# Altium footprint library 2020-05-30_00-24-19.PcbLib: 6 footprints
Each footprint in its own frame and in the unit in brackets; x right, y up, seen from the top. Pads: shape width x height; smd on the part's side, far side on the other; paste and mask are expansions set on the pad; w line width, h text height; cw(c..) or ccw(c..) is an arc to the next point about the centre after c.
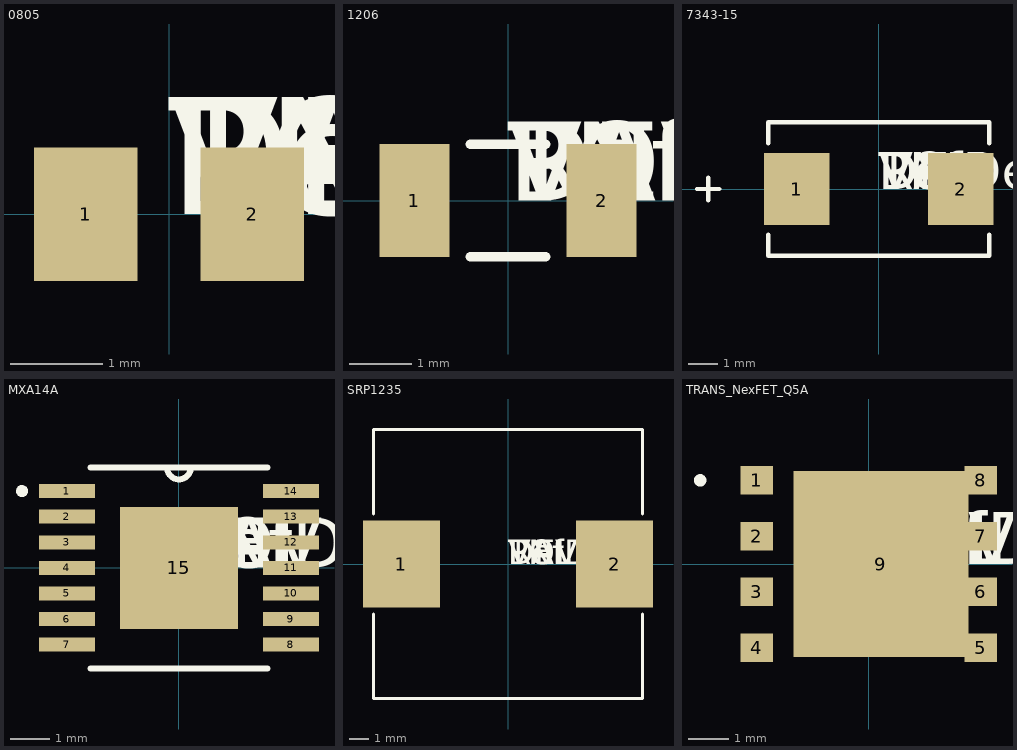
[diagram p0: the footprints below, top view; thin cyan lines are the x and y axes]

## 0805 [mil]
pads (2):
  rect 44x57 smd: 1(-35.5,0) 2(35.5,0)
Top Overlay:
  text "RefDes" at 0,0 h50
  text "DEV" at 0,0 h50
  text "PN" at 0,0 h50
  text "DEV" at 0,0 h50
  text "VAL" at 0,0 h50
  text "TOL" at 0,0 h50
3D body "0805.stp": height 57, standoff 0, extent -43.5,-28.5 43.5,28.5

## 1206 [mil]
pads (2):
  rect 44x71 smd: 1(-59,0) 2(59,0)
Top Overlay:
  lines w6: -23.9,-35.5 23.9,-35.5 ; -23.9,35.5 23.9,35.5
  text "RefDes" at 0,0 h50
  text "DEV" at 0,0 h50
  text "PN" at 0,0 h50
  text "DEV" at 0,0 h50
  text "VAL" at 0,0 h50
  text "TOL" at 0,0 h50
3D body "1206.stp": height 30, standoff 0, extent -67,-35.5 67,35.5

## 7343-15 [mil]
pads (2):
  rect 89x98 smd: 1(-111,0) 2(111,0)
Top Overlay:
  lines w6: -246,0 -216,0 ; -231,-15 -231,15 ; -149.5,-62.1 -149.5,-90.5 149.5,-90.5 149.5,-62.1 ; -149.5,62.1 -149.5,90.5 149.5,90.5 149.5,62.1
  text "RefDes" at 0,0 h50
  text "DEV" at 0,0 h50
  text "PN" at 0,0 h50
  text "DEV" at 0,0 h50
  text "VAL" at 0,0 h50
  text "TOL" at 0,0 h50
3D body "7343-15.stp": height 81, standoff 0, extent -149.5,-90.5 149.5,90.5

## MXA14A [mil]
pads (15):
  rect 56x14 smd: 1(-112,76.77) 2(-112,51.18) 3(-112,25.59) 4(-112,0) 5(-112,-25.59) 6(-112,-51.18) 7(-112,-76.77) 8(112,-76.77) 9(112,-51.18) 10(112,-25.59) 11(112,0) 12(112,25.59) 13(112,51.18) 14(112,76.77)
  rect 118x122 smd: 15(0,0)
Top Overlay:
  circle w6: c-156.8,76.77 r3
  lines w6: -88.5,-100.5 88.5,-100.5 ; -88.5,100.5 88.5,100.5 ; -12,100.5 ccw(c0,100.5) 12,100.5
  text "RefDes" at 0,0 h50
  text "DEV" at 0,0 h50
  text "PN" at 0,0 h50
  text "DEV" at 0,0 h50
  text "VAL" at 0,0 h50
  text "TOL" at 0,0 h50
3D body "MXA14A.stp": height 43.1, standoff 0, extent -126,-100.5 126,100.5

## SRP1235 [mil]
pads (2):
  rect 157.5x177 smd: 1(-216.75,0) 2(216.75,0)
Top Overlay:
  lines w6: -273.5,-101.6 -273.5,-273.5 273.5,-273.5 273.5,-101.6 ; -273.5,101.6 -273.5,273.5 273.5,273.5 273.5,101.6
  text "RefDes" at 0,0 h50
  text "DEV" at 0,0 h50
  text "PN" at 0,0 h50
  text "DEV" at 0,0 h50
  text "VAL" at 0,0 h50
  text "TOL" at 0,0 h50
3D body "SRP1235.stp": height 158, standoff 0, extent -285.5,-273.5 285.5,273.5

## TRANS_NexFET_Q5A [mm]
pads (9):
  rect 0.8x0.7 smd paste-0.387: 1(-2.752,2.055) 2(-2.752,0.685) 3(-2.752,-0.685) 4(-2.752,-2.055) 5(2.752,-2.055) 6(2.752,-0.685) 7(2.752,0.685) 8(2.752,2.055)
  rect 4.3x4.56 smd paste-2.267 mask+0.025: 9(0.3,0)
Top Overlay:
  circle w0.152: c-4.141,2.055 r0.076
  text "RefDes" at 0,0 h1.27
  text "DEV" at 0,0 h1.27
  text "PN" at 0,0 h1.27
  text "DEV" at 0,0 h1.27
  text "VAL" at 0,0 h1.27
  text "TOL" at 0,0 h1.27
Top Paste:
  region: -0.617,2.18 -1.85,2.18 -1.85,0.86 -0.617,0.86
  region: -0.617,0.66 -1.85,0.66 -1.85,-0.66 -0.617,-0.66
  region: -0.617,-0.86 -1.85,-0.86 -1.85,-2.18 -0.617,-2.18
  region: 0.817,2.18 -0.417,2.18 -0.417,0.86 0.817,0.86
  region: 0.817,0.66 -0.417,0.66 -0.417,-0.66 0.817,-0.66
  region: 0.817,-0.86 -0.417,-0.86 -0.417,-2.18 0.817,-2.18
  region: 2.25,2.18 1.017,2.18 1.017,0.86 2.25,0.86
  region: 2.25,0.66 1.017,0.66 1.017,-0.66 2.25,-0.66
  region: 2.25,-0.86 1.017,-0.86 1.017,-2.18 2.25,-2.18
  region: -2.352,2.405 -3.153,2.405 -3.153,1.705 -2.352,1.705
  region: -2.352,1.035 -3.153,1.035 -3.153,0.335 -2.352,0.335
  region: -2.352,-0.335 -3.153,-0.335 -3.153,-1.035 -2.352,-1.035
  region: -2.352,-1.705 -3.153,-1.705 -3.153,-2.405 -2.352,-2.405
  region: 3.153,-1.705 2.352,-1.705 2.352,-2.405 3.153,-2.405
  region: 3.153,-0.335 2.352,-0.335 2.352,-1.035 3.153,-1.035
  region: 3.153,1.035 2.352,1.035 2.352,0.335 3.153,0.335
  region: 3.153,2.405 2.352,2.405 2.352,1.705 3.153,1.705
Top Solder:
  region: -2.352,2.405 -3.153,2.405 -3.153,1.705 -2.352,1.705
  region: -2.352,1.035 -3.153,1.035 -3.153,0.335 -2.352,0.335
  region: -2.352,-0.335 -3.153,-0.335 -3.153,-1.035 -2.352,-1.035
  region: -2.352,-1.705 -3.153,-1.705 -3.153,-2.405 -2.352,-2.405
  region: 3.153,-1.705 2.352,-1.705 2.352,-2.405 3.153,-2.405
  region: 3.153,-0.335 2.352,-0.335 2.352,-1.035 3.153,-1.035
  region: 3.153,1.035 2.352,1.035 2.352,0.335 3.153,0.335
  region: 3.153,2.405 2.352,2.405 2.352,1.705 3.153,1.705
  region: 2.35,-2.28 2.35,2.28 -1.95,2.28 -1.95,-2.28
3D body: height 0.25, standoff 0, extent 0,0 0.254,0.254